# Altium schematic symbol library CN HDR 8POS Motor Molex.Schlib: 1 symbol
Pins are listed as number, name and electrical type; pins without a type are passive.

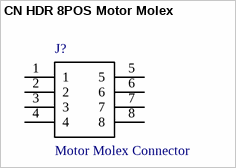
[diagram p0: symbol CN HDR 8POS Motor Molex]

## CN HDR 8POS Motor Molex
designator J?, comment Motor Molex Connector
Connector Header Through Hole 8 position 0.165" (4.20mm)
pins: 1, 2, 3, 4, 5, 6, 7, 8